# Altium schematic symbol library Module.SchLib: 4 symbols
Pins are listed as number, name and electrical type; pins without a type are passive.

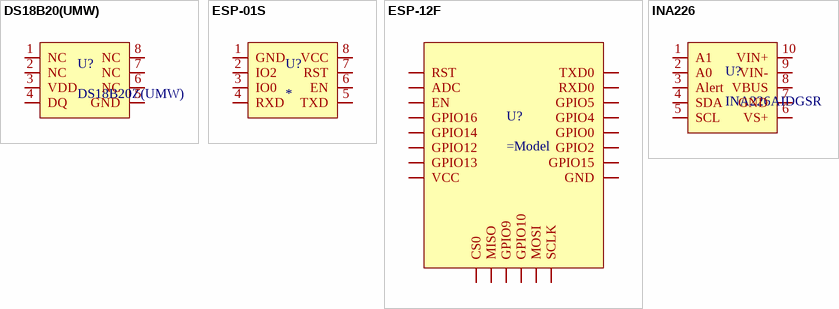
[diagram p0: symbols DS18B20(UMW) to INA226]

## DS18B20(UMW)
designator U?, comment DS18B20Z(UMW)
DS18B20贴片式温度传感器; Brand: UMW(友台半导体); Remark: 温度传感器; Product ID: C695837; Model: DS18B20Z(UMW); Package: SOIC-8
footprint SOP-8_L4.9-W3.9-P1.27-LS6.0-BL
pins: 1 NC, 2 NC, 3 VDD, 4 DQ, 5 GND, 6 NC, 7 NC, 8 NC

## ESP-01S
designator U?
安信可无线WIFI模块; Brand: Ai-Thinker(安信可); Model: ESP-01S; Remark: WiFi模块; Product ID: C503582; Package: 插件封装
footprint ESP-01S
pins: 1 GND, 2 IO2, 3 IO0, 4 RXD, 5 TXD, 6 EN, 7 RST, 8 VCC

## ESP-12F
designator U?
安信可无线WIFI模块
footprint ESP-12F
pins: 1 RST, 2 ADC, 3 EN, 4 GPIO16, 5 GPIO14, 6 GPIO12, 7 GPIO13, 8 VCC, 9 GND, 10 GPIO15, 11 GPIO2, 12 GPIO0, 13 GPIO4, 14 GPIO5, 15 RXD0, 16 TXD0, 17 CS0, 18 MISO, 19 GPIO9, 20 GPIO10, 21 MOSI, 22 SCLK

## INA226
designator U?, comment INA226AIDGSR
电流感应放大器; Brand: TI(德州仪器); Product ID: C49851; Model: INA226AIDGSR; Remark: 电流感应放大器; Package: MSOP-10
footprint MSOP-10_L3.0-W3.0-P0.50-LS5.0-BL
pins: 1 A1, 2 A0, 3 Alert, 4 SDA, 5 SCL, 6 VS+, 7 GND, 8 VBUS, 9 VIN-, 10 VIN+